# Altium footprint library ExtraComponents.PcbLib: 16 footprints
Each footprint in its own frame and in the unit in brackets; x right, y up, seen from the top. Pads: shape width x height; smd on the part's side, far side on the other; paste and mask are expansions set on the pad; w line width, h text height; cw(c..) or ccw(c..) is an arc to the next point about the centre after c.
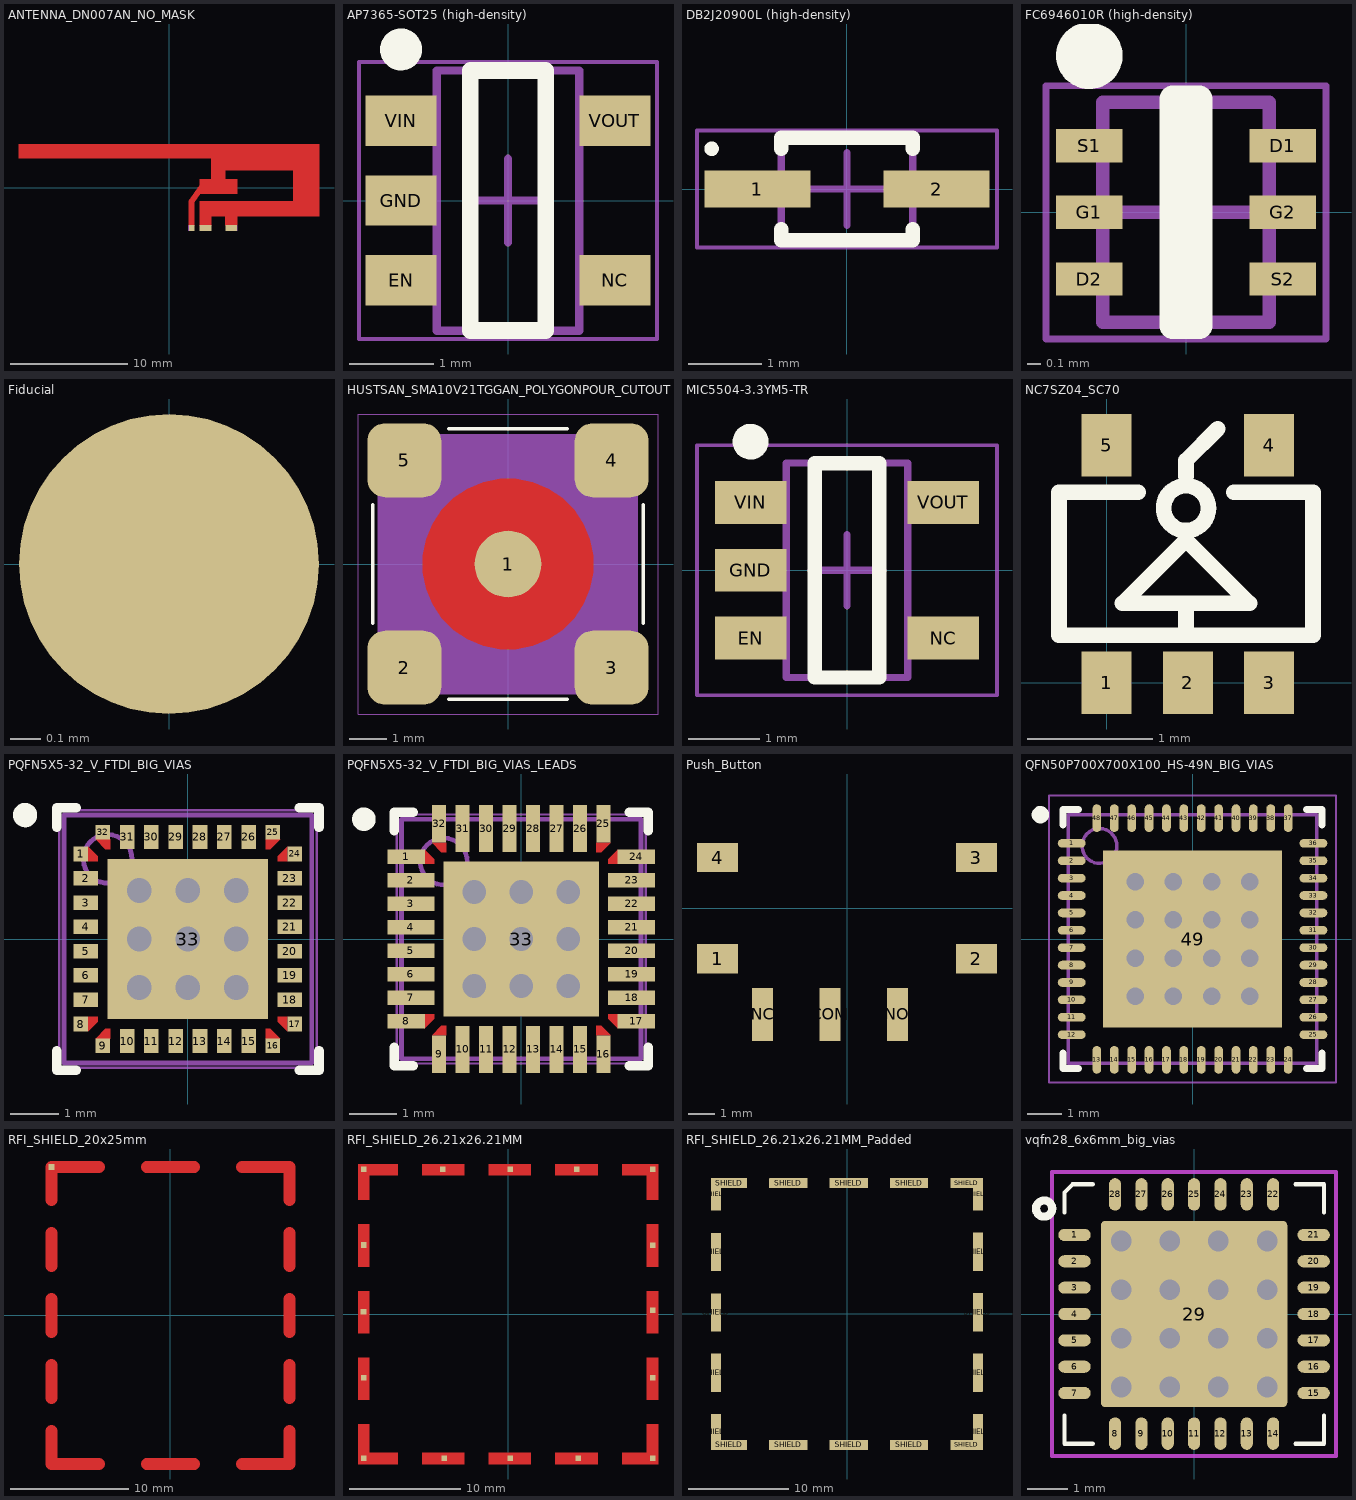
[diagram p0: the footprints below, top view; thin cyan lines are the x and y axes]

## ANTENNA_DN007AN_NO_MASK [mm] "ANTENNA_DN007AN"
pads (3):
  rect 0.46x0.5 smd paste-0.5 mask-0.5: 1(1.93,-3.455)
  rect 1x0.5 smd paste-100 mask-1: 2(3.11,-3.455)
  rect 1x0.5 smd paste-100 mask-100: 3(5.31,-3.455)
Top Layer:
  region: 12.79,-2.465 12.79,3.705 -12.79,3.705 -12.79,2.495 3.61,2.495 3.61,0.695 2.61,0.695 2.61,0.193 1.7,-1.127 1.7,-3.205 2.16,-3.205 2.16,-1.27 2.681,-0.515 5.81,-0.515 5.81,0.695 4.81,0.695 4.81,1.495 10.61,1.495 10.61,-1.175 2.61,-1.175 2.61,-3.205 3.61,-3.205 3.61,-2.465 4.81,-2.465 4.81,-3.205 5.81,-3.205 5.81,-2.465
Mechanical 11:
  text "2" at 3.03,-3.455 h0.2
  text "3" at 5.23,-3.455 h0.2
  text "1" at 1.85,-3.455 h0.2
Mechanical 16:
  lines w0.025: 1.7,-3.705 1.7,-3.205 ; 5.81,-3.705 5.81,-3.205
Mechanical 17:
  text "MICHAL BLACHUCKI" at -8.715,-1.948 h0.2
Mechanical 18:
  text "ROBERT MITAL" at -8.715,-1.548 h0.2
Mechanical 19:
  text "2011-09-19" at -8.715,-2.298 h0.2

## AP7365-SOT25 (high-density) [mm] "AP7365-SOT25 LDO (high-density)"
height 1.4
pads (5):
  rect 0.85x0.6 smd: EN(-1.275,-0.95) GND(-1.275,0) NC(1.275,-0.95) VIN(-1.275,0.95) VOUT(1.275,0.95)
Top Overlay:
  circle w0.25: c-1.275,1.8 r0.125
  lines w0.2: -0.45,-1.55 0.45,-1.55 0.45,1.55 -0.45,1.55 -0.45,-1.55
Mechanical 13:
  lines w0.1: -0.85,-1.55 -0.85,1.55 0.85,1.55 0.85,-1.55 -0.85,-1.55
Mechanical 15:
  lines w0.05: -1.775,-1.65 -1.775,1.65 1.775,1.65 1.775,-1.65 -1.775,-1.65
  lines w0.1: -0.5,0 0.5,0 ; 0,-0.5 0,0.5
3D body: height 1.4, standoff 0.01, extent -0.85,-1.55 0.85,1.55

## DB2J20900L (high-density) [mm] "Panasonic Schottkz Barrier Diode DB2J20900L"
height 0.7
pads (2):
  rect 1.45x0.5 smd: 1(-1.225,0) 2(1.225,0)
Top Overlay:
  circle w0.1: c-1.85,0.55 r0.05
  lines w0.2: -0.9,-0.55 -0.9,-0.7 0.9,-0.7 0.9,-0.55 ; -0.9,0.55 -0.9,0.7 0.9,0.7 0.9,0.55
Mechanical 13:
  lines w0.1: -0.9,-0.675 0.9,-0.675 0.9,0.675 -0.9,0.675 -0.9,-0.675
Mechanical 15:
  lines w0.05: -2.05,-0.8 2.05,-0.8 2.05,0.8 -2.05,0.8 -2.05,-0.8
  lines w0.1: -0.5,0 0.5,0 ; 0,-0.5 0,0.5
3D body: height 0.7, standoff 0, extent -0.9,-0.675 0.9,0.675

## FC6946010R (high-density) [mm] "Panasonic Dual N-Channel Mosfet FC6946010R"
height 0.65
pads (6):
  rect 0.5x0.25 smd: D1(0.725,0.5) D2(-0.725,-0.5) G1(-0.725,0) G2(0.725,0) S1(-0.725,0.5) S2(0.725,-0.5)
Top Overlay:
  circle w0.25: c-0.725,1.175 r0.125
  lines w0.2: -0.1,-0.85 0.1,-0.85 0.1,0.85 -0.1,0.85 -0.1,-0.85
Mechanical 13:
  lines w0.1: -0.625,-0.825 -0.625,0.825 0.625,0.825 0.625,-0.825 -0.625,-0.825
Mechanical 15:
  lines w0.05: -1.05,-0.95 -1.05,0.95 1.05,0.95 1.05,-0.95 -1.05,-0.95
  lines w0.1: -0.5,0 0.5,0 ; 0,-0.5 0,0.5
3D body: height 0.65, standoff 0, extent -0.625,-0.825 0.625,0.825

## Fiducial [mm] "Fiducial"
pads (1):
  round 1 smd paste-1 mask+0: ""(0,0)

## HUSTSAN_SMA10V21TGGAN_POLYGONPOUR_CUTOUT [mm] "HUSTSAN_SMA10V21TGGAN With A GND Plane Cutout"
pads (5):
  round 1.801 smd: 1(0,0)
  rrect48% 2x2 smd: 2(-2.8,-2.8) 3(2.8,-2.8) 4(2.8,2.8) 5(-2.8,2.8)
Top Layer:
  pour cut-out: 0,-2.3 -0.227,-2.3 -0.671,-2.212 -1.089,-2.038 -1.466,-1.787 -1.787,-1.466 -2.038,-1.089 -2.212,-0.671 -2.3,-0.227 -2.3,0 -2.3,0.227 -2.212,0.671 -2.038,1.089 -1.787,1.466 -1.466,1.787 -1.089,2.038 -0.671,2.212 -0.227,2.3 0,2.3 0.227,2.3 0.671,2.212 1.089,2.038 1.466,1.787 1.787,1.466 2.038,1.089 2.212,0.671 2.3,0.227 2.3,0 2.3,-0.227 2.212,-0.671 2.038,-1.089 1.787,-1.466 1.466,-1.787 1.089,-2.038 0.671,-2.212 0.227,-2.3
Top Overlay:
  lines w0.1: -3.65,-1.6 -3.65,1.6 ; -1.6,-3.65 1.6,-3.65 ; -1.6,3.65 1.6,3.65 ; 3.65,-1.6 3.65,1.6
  text ".Designator" at 2.45,-5 h1
Mechanical 11:
  text "4" at 2.72,2.8 h0.2
  text "5" at -2.88,2.8 h0.2
  text "3" at 2.72,-2.8 h0.2
  text "2" at -2.88,-2.8 h0.2
  text "1" at -0.08,0 h0.2
Mechanical 13:
  circle w0.025: c0,0 r2.3
  circle w0.025: c0,0 r2.4
  circle w0.025: c0,0 r2.744
  lines w0.025: -3.5,-3.5 3.5,-3.5 3.5,3.5 -3.5,3.5 -3.5,-3.5
Mechanical 14:
  circle w0.025: c0,0 r0.978
  lines w0.025: -4.05,-4.05 4.05,-4.05 4.05,4.05 -4.05,4.05 -4.05,-4.05
Mechanical 15:
  region: -3.5,3.5 -3.5,-3.5 3.5,-3.5 3.5,3.5
  pour cut-out: 2.752,0 2.719,0.431 2.618,0.851 2.452,1.25 2.227,1.618 1.946,1.946 1.618,2.227 1.25,2.452 0.851,2.618 0.431,2.719 0,2.752 -0.431,2.719 -0.851,2.618 -1.25,2.452 -1.618,2.227 -1.946,1.946 -2.227,1.618 -2.452,1.25 -2.618,0.851 -2.719,0.431 -2.752,0 -2.719,-0.431 -2.618,-0.851 -2.452,-1.25 -2.227,-1.618 -1.946,-1.946 -1.618,-2.227 -1.25,-2.452 -0.851,-2.618 -0.431,-2.719 0,-2.752 0.431,-2.719 0.851,-2.618 1.25,-2.452 1.618,-2.227 1.946,-1.946 2.227,-1.618 2.452,-1.25 2.618,-0.851 2.719,-0.431
Mechanical 16:
  text "COPYRIGHTS 2011 @ DYNAMIC PRECISION" at -3,4.15 h0.2
Mechanical 17:
  text "MICHAL BLACHUCKI" at -0.635,-0.146 h0.2
Mechanical 18:
  text "ROBERT MITAL" at -0.635,0.254 h0.2
Mechanical 19:
  text "2011-07-18" at -0.635,-0.496 h0.2

## MIC5504-3.3YM5-TR [mm] "SOT23, 5-Leads, Body 2.90x2.80mm, Pitch 0.95mm, IPC Medium Density"
height 1.45
pads (5):
  rect 1x0.6 smd: EN(-1.35,-0.95) GND(-1.35,0) NC(1.35,-0.95) VIN(-1.35,0.95) VOUT(1.35,0.95)
Top Overlay:
  circle w0.25: c-1.35,1.8 r0.125
  lines w0.2: -0.45,-1.5 -0.45,1.5 0.45,1.5 0.45,-1.5 -0.45,-1.5
Mechanical 13:
  lines w0.1: -0.85,-1.5 0.85,-1.5 0.85,1.5 -0.85,1.5 -0.85,-1.5
Mechanical 15:
  lines w0.05: -2.1,-1.75 2.1,-1.75 2.1,1.75 -2.1,1.75 -2.1,-1.75
  lines w0.1: -0.5,0 0.5,0 ; 0,-0.5 0,0.5
3D body: height 1.45, standoff 0, extent -0.85,-1.5 0.85,1.5

## NC7SZ04_SC70 [mm] "NC7SZ04 TinyLogic UHS Inverter SC70 Package"
height 1.1
pads (5):
  rect 0.4x0.5 smd: 1(0,0) 2(0.65,0) 3(1.3,0) 4(1.3,1.9) 5(0,1.9)
Top Overlay:
  circle w0.125: c0.635,1.397 r0.18
  lines w0.125: 0.254,1.524 -0.381,1.524 -0.381,0.381 1.651,0.381 1.651,1.524 1.016,1.524 ; 0.635,0.381 0.635,0.635 ; 0.635,1.651 0.635,1.778 0.889,2.032 ; 0.635,0.635 1.143,0.635 0.635,1.143 0.127,0.635 0.635,0.635

## PQFN5X5-32_V_FTDI_BIG_VIAS [mm] "QFN, 32-Leads, Body 5x5mm, Pitch 0.5mm, Thermal Pad 3.3x3.3mm, FTDI Recommended"
height 1
pads (33):
  rect 0.3x0.3 smd paste-0.15 mask-0.15: 1(-2.2,1.75) 8(-2.2,-1.75) 9(-1.75,-2.2) 16(1.75,-2.2) 17(2.2,-1.75) 24(2.2,1.75) 25(1.75,2.2) 32(-1.75,2.2)
  rect 0.5x0.3 smd paste-0.15 mask+0.06: 2(-2.1,1.25) 3(-2.1,0.75) 4(-2.1,0.25) 5(-2.1,-0.25) 6(-2.1,-0.75) 7(-2.1,-1.25) 18(2.1,-1.25) 19(2.1,-0.75) 20(2.1,-0.25) 21(2.1,0.25) 22(2.1,0.75) 23(2.1,1.25)
  rect 0.3x0.5 smd paste-0.15 mask+0.06: 10(-1.25,-2.1) 11(-0.75,-2.1) 12(-0.25,-2.1) 13(0.25,-2.1) 14(0.75,-2.1) 15(1.25,-2.1) 26(1.25,2.1) 27(0.75,2.1) 28(0.25,2.1) 29(-0.25,2.1) 30(-0.75,2.1) 31(-1.25,2.1)
  rect 3.3x3.3 smd paste-1.65 mask+0.06: 33(0,0)
via -1,0 diameter 0.889 hole 0.508
via 1,-1 diameter 0.889 hole 0.508
via 0,-1 diameter 0.889 hole 0.508
via -1,-1 diameter 0.889 hole 0.508
via 1,0 diameter 0.889 hole 0.508
via 0,0 diameter 0.889 hole 0.508
via 1,1 diameter 0.889 hole 0.508
via 0,1 diameter 0.889 hole 0.508
via -1,1 diameter 0.889 hole 0.508
Top Layer:
  region: -2.05,-1.6 -1.85,-1.6 -1.85,-1.7 -2.05,-1.9
  region: 2.05,-1.6 1.85,-1.6 1.85,-1.7 2.05,-1.9
  region: 2.05,1.6 1.85,1.6 1.85,1.7 2.05,1.9
  region: -2.05,1.6 -1.85,1.6 -1.85,1.7 -2.05,1.9
  region: -1.6,-2.05 -1.6,-1.85 -1.7,-1.85 -1.9,-2.05
  region: 1.6,2.05 1.6,1.85 1.7,1.85 1.9,2.05
  region: -1.6,2.05 -1.6,1.85 -1.7,1.85 -1.9,2.05
  region: 1.6,-1.85 1.6,-2.05 1.9,-2.05 1.7,-1.85
Top Overlay:
  circle w0.25: c-3.35,2.55 r0.125
  lines w0.2: -2.7,-2.3 -2.7,-2.7 -2.3,-2.7 ; -2.7,2.3 -2.7,2.7 -2.3,2.7 ; 2.3,-2.7 2.7,-2.7 2.7,-2.3 ; 2.3,2.7 2.7,2.7 2.7,2.3
Top Paste:
  rectangle: 1.85,1.1 2.45,1.4
  rectangle: 1.85,0.6 2.45,0.9
  rectangle: 1.85,0.1 2.45,0.4
  rectangle: 1.85,-0.4 2.45,-0.1
  rectangle: 1.85,-0.9 2.45,-0.6
  rectangle: 1.85,-1.4 2.45,-1.1
  region: -1.85,-1.1 -2.45,-1.1 -2.45,-1.4 -1.85,-1.4
  region: -1.85,-0.6 -2.45,-0.6 -2.45,-0.9 -1.85,-0.9
  region: -1.85,-0.1 -2.45,-0.1 -2.45,-0.4 -1.85,-0.4
  region: -1.85,0.4 -2.45,0.4 -2.45,0.1 -1.85,0.1
  region: -1.85,0.9 -2.45,0.9 -2.45,0.6 -1.85,0.6
  region: -1.85,1.4 -2.45,1.4 -2.45,1.1 -1.85,1.1
  region: 1.1,-1.85 1.1,-2.45 1.4,-2.45 1.4,-1.85
  region: 0.6,-1.85 0.6,-2.45 0.9,-2.45 0.9,-1.85
  region: 0.1,-1.85 0.1,-2.45 0.4,-2.45 0.4,-1.85
  region: -0.4,-1.85 -0.4,-2.45 -0.1,-2.45 -0.1,-1.85
  region: -0.9,-1.85 -0.9,-2.45 -0.6,-2.45 -0.6,-1.85
  region: -1.4,-1.85 -1.4,-2.45 -1.1,-2.45 -1.1,-1.85
  region: 1.4,1.85 1.4,2.45 1.1,2.45 1.1,1.85
  region: 0.9,1.85 0.9,2.45 0.6,2.45 0.6,1.85
  region: 0.4,1.85 0.4,2.45 0.1,2.45 0.1,1.85
  region: -0.1,1.85 -0.1,2.45 -0.4,2.45 -0.4,1.85
  region: -0.6,1.85 -0.6,2.45 -0.9,2.45 -0.9,1.85
  region: -1.1,1.85 -1.1,2.45 -1.4,2.45 -1.4,1.85
  rectangle: -0.3,0.1 0.3,0.4
  rectangle: -1.3,0.1 -0.7,0.4
  rectangle: 0.7,0.1 1.3,0.4
  rectangle: -0.3,-0.4 0.3,-0.1
  rectangle: 0.7,-0.4 1.3,-0.1
  rectangle: -1.3,-0.4 -0.7,-0.1
  rectangle: -1.3,-1.4 -0.7,-1.1
  rectangle: 0.7,-1.4 1.3,-1.1
  rectangle: -0.3,-1.4 0.3,-1.1
  rectangle: 0.7,-0.9 1.3,-0.6
  rectangle: -1.3,-0.9 -0.7,-0.6
  rectangle: -0.3,-0.9 0.3,-0.6
  rectangle: -1.3,0.6 -0.7,0.9
  rectangle: 0.7,0.6 1.3,0.9
  rectangle: -0.3,0.6 0.3,0.9
  rectangle: 0.7,1.1 1.3,1.4
  rectangle: -1.3,1.1 -0.7,1.4
  rectangle: -0.3,1.1 0.3,1.4
  region: 1.6,-1.85 1.6,-2.45 1.9,-2.45 1.9,-2.05 1.7,-1.85
  region: 1.85,1.6 2.45,1.601 2.45,1.899 2.05,1.9 1.85,1.7
  region: 1.85,-1.6 2.45,-1.6 2.45,-1.9 2.05,-1.9 1.85,-1.7
  region: 1.6,1.85 1.6,2.45 1.9,2.45 1.9,2.05 1.7,1.85
  region: -1.85,1.6 -2.45,1.6 -2.45,1.9 -2.05,1.9 -1.85,1.7
  region: -1.85,-1.6 -2.45,-1.6 -2.45,-1.9 -2.05,-1.9 -1.85,-1.7
  region: -1.6,-1.85 -1.6,-2.45 -1.9,-2.45 -1.9,-2.05 -1.7,-1.85
  region: -1.6,1.85 -1.6,2.45 -1.9,2.45 -1.9,2.05 -1.7,1.85
Top Solder:
  region: 1.96,-2.025 1.96,-2.41 1.54,-2.41 1.54,-1.79 1.725,-1.79
  region: 2.025,1.96 2.41,1.96 2.41,1.54 1.79,1.54 1.79,1.725
  region: 2.025,-1.96 2.41,-1.96 2.41,-1.54 1.79,-1.54 1.79,-1.725
  region: 1.96,2.025 1.96,2.41 1.54,2.41 1.54,1.79 1.725,1.79
  region: -2.025,1.96 -2.41,1.96 -2.41,1.54 -1.79,1.54 -1.79,1.725
  region: -2.025,-1.96 -2.41,-1.96 -2.41,-1.54 -1.79,-1.54 -1.79,-1.725
  region: -1.96,-2.025 -1.96,-2.41 -1.54,-2.41 -1.54,-1.79 -1.725,-1.79
  region: -1.96,2.025 -1.96,2.41 -1.54,2.41 -1.54,1.79 -1.725,1.79
Mechanical 13:
  circle w0.1: c-1.65,1.65 r0.5
  lines w0.1: -2.55,-2.55 2.55,-2.55 2.55,2.55 -2.55,2.55 -2.55,-2.55
Mechanical 15:
  lines w0.05: -2.65,-2.65 2.65,-2.65 2.65,2.65 -2.65,2.65 -2.65,-2.65
  lines w0.1: -0.5,0 0.5,0 ; 0,-0.5 0,0.5
3D body: height 1, standoff 0, extent -2.55,-2.55 2.55,2.55

## PQFN5X5-32_V_FTDI_BIG_VIAS_LEADS [mm] "QFN, 32-Leads, Body 5x5mm, Pitch 0.5mm, Thermal Pad 3.3x3.3mm, FTDI Recommended"
height 1
pads (33):
  rect 0.8x0.3 smd paste-0.15 mask-0.15: 1(-2.45,1.75) 8(-2.45,-1.75) 17(2.45,-1.75) 24(2.45,1.75)
  rect 1x0.3 smd mask+0.06: 2(-2.35,1.25) 3(-2.35,0.75) 4(-2.35,0.25) 5(-2.35,-0.25) 6(-2.35,-0.75) 7(-2.35,-1.25) 18(2.35,-1.25) 19(2.35,-0.75) 20(2.35,-0.25) 21(2.35,0.25) 22(2.35,0.75) 23(2.35,1.25)
  rect 0.3x0.8 smd paste-0.15 mask-0.15: 9(-1.75,-2.45) 16(1.75,-2.45) 25(1.75,2.45) 32(-1.75,2.45)
  rect 0.3x1 smd mask+0.06: 10(-1.25,-2.35) 11(-0.75,-2.35) 12(-0.25,-2.35) 13(0.25,-2.35) 14(0.75,-2.35) 15(1.25,-2.35) 26(1.25,2.35) 27(0.75,2.35) 28(0.25,2.35) 29(-0.25,2.35) 30(-0.75,2.35) 31(-1.25,2.35)
  rect 3.3x3.3 smd paste-1.125 mask+0.06: 33(0,0)
via -1,0 diameter 0.889 hole 0.508
via 1,-1 diameter 0.889 hole 0.508
via 0,-1 diameter 0.889 hole 0.508
via -1,-1 diameter 0.889 hole 0.508
via 1,0 diameter 0.889 hole 0.508
via 0,0 diameter 0.889 hole 0.508
via 1,1 diameter 0.889 hole 0.508
via 0,1 diameter 0.889 hole 0.508
via -1,1 diameter 0.889 hole 0.508
Top Layer:
  region: -2.05,-1.6 -1.85,-1.6 -1.85,-1.7 -2.05,-1.9
  region: 2.05,-1.6 1.85,-1.6 1.85,-1.7 2.05,-1.9
  region: 2.05,1.6 1.85,1.6 1.85,1.7 2.05,1.9
  region: -2.05,1.6 -1.85,1.6 -1.85,1.7 -2.05,1.9
  region: -1.6,-2.05 -1.6,-1.85 -1.7,-1.85 -1.9,-2.05
  region: 1.6,2.05 1.6,1.85 1.7,1.85 1.9,2.05
  region: -1.6,2.05 -1.6,1.85 -1.7,1.85 -1.9,2.05
  region: 1.6,-1.85 1.6,-2.05 1.9,-2.05 1.7,-1.85
Top Overlay:
  circle w0.25: c-3.35,2.55 r0.125
  lines w0.2: -2.7,-2.3 -2.7,-2.7 -2.3,-2.7 ; -2.7,2.3 -2.7,2.7 -2.3,2.7 ; 2.3,-2.7 2.7,-2.7 2.7,-2.3 ; 2.3,2.7 2.7,2.7 2.7,2.3
Top Paste:
  rectangle: -0.3,0.3 0.3,0.6
  rectangle: -1.3,0.3 -0.7,0.6
  rectangle: 0.7,0.3 1.3,0.6
  rectangle: -0.3,-0.6 0.3,-0.3
  rectangle: 0.7,-0.6 1.3,-0.3
  rectangle: -1.3,-0.6 -0.7,-0.3
  rectangle: -1.3,-1.525 -0.7,-1.1
  rectangle: 0.7,-1.525 1.3,-1.1
  rectangle: -0.3,-1.525 0.3,-1.1
  rectangle: 0.7,-0.9 1.3,-0.6
  rectangle: -1.3,-0.9 -0.7,-0.6
  rectangle: -0.3,-0.9 0.3,-0.6
  rectangle: -1.3,0.6 -0.7,0.9
  rectangle: 0.7,0.6 1.3,0.9
  rectangle: -0.3,0.6 0.3,0.9
  rectangle: 0.7,1.1 1.3,1.525
  rectangle: -1.3,1.1 -0.7,1.525
  rectangle: -0.3,1.1 0.3,1.525
  region: 1.6,-1.85 1.6,-2.85 1.9,-2.85 1.9,-2.05 1.7,-1.85
  region: 1.85,1.6 2.85,1.602 2.85,1.898 2.05,1.9 1.85,1.7
  region: 1.85,-1.6 2.85,-1.6 2.85,-1.9 2.05,-1.9 1.85,-1.7
  region: 1.6,1.85 1.6,2.85 1.9,2.85 1.9,2.05 1.7,1.85
  region: -1.85,1.6 -2.85,1.6 -2.85,1.9 -2.05,1.9 -1.85,1.7
  region: -1.85,-1.6 -2.85,-1.6 -2.85,-1.9 -2.05,-1.9 -1.85,-1.7
  region: -1.6,-1.85 -1.6,-2.85 -1.9,-2.85 -1.9,-2.05 -1.7,-1.85
  region: -1.6,1.85 -1.6,2.85 -1.9,2.85 -1.9,2.05 -1.7,1.85
Top Solder:
  region: 1.96,-2.025 1.96,-2.91 1.54,-2.91 1.54,-1.79 1.725,-1.79
  region: 2.025,1.96 2.91,1.96 2.91,1.54 1.79,1.54 1.79,1.725
  region: 2.025,-1.96 2.91,-1.96 2.91,-1.54 1.79,-1.54 1.79,-1.725
  region: 1.96,2.025 1.96,2.91 1.54,2.91 1.54,1.79 1.725,1.79
  region: -2.025,1.96 -2.91,1.96 -2.91,1.54 -1.79,1.54 -1.79,1.725
  region: -2.025,-1.96 -2.91,-1.96 -2.91,-1.54 -1.79,-1.54 -1.79,-1.725
  region: -1.96,-2.025 -1.96,-2.91 -1.54,-2.91 -1.54,-1.79 -1.725,-1.79
  region: -1.96,2.025 -1.96,2.91 -1.54,2.91 -1.54,1.79 -1.725,1.79
Mechanical 13:
  circle w0.1: c-1.65,1.65 r0.5
  lines w0.1: -2.55,-2.55 2.55,-2.55 2.55,2.55 -2.55,2.55 -2.55,-2.55
Mechanical 15:
  lines w0.05: -2.65,-2.65 2.65,-2.65 2.65,2.65 -2.65,2.65 -2.65,-2.65
  lines w0.1: -0.5,0 0.5,0 ; 0,-0.5 0,0.5
3D body: height 1, standoff 0, extent -2.55,-2.55 2.55,2.55

## Push_Button [mm] "CFPA-1FB4"
pads (7):
  rect 1.55x1.1 smd: 1(-4.875,-1.905) 2(4.875,-1.905) 3(4.875,1.905) 4(-4.875,1.905)
  rect 0.8x2 smd: COM(-0.64,-4) NC(-3.18,-4) NO(1.9,-4)
3D body "G3B15AH-XC.stp": height 5.52, standoff -0.04, extent -5.537,-4.445 5.461,8.915

## QFN50P700X700X100_HS-49N_BIG_VIAS [mm] "QFN, 48-Leads, Body 7.00x7.00mm, Pitch 0.50mm, Thermal Pad 5.15x5.10mm, IPC Medium Density"
height 1
pads (49):
  oval 0.8x0.25 smd: 1(-3.475,2.75) 2(-3.475,2.25) 3(-3.475,1.75) 4(-3.475,1.25) 5(-3.475,0.75) 6(-3.475,0.25) 7(-3.475,-0.25) 8(-3.475,-0.75) 9(-3.475,-1.25) 10(-3.475,-1.75) 11(-3.475,-2.25) 12(-3.475,-2.75) 25(3.475,-2.75) 26(3.475,-2.25) 27(3.475,-1.75) 28(3.475,-1.25) 29(3.475,-0.75) 30(3.475,-0.25) 31(3.475,0.25) 32(3.475,0.75) 33(3.475,1.25) 34(3.475,1.75) 35(3.475,2.25) 36(3.475,2.75)
  oval 0.25x0.8 smd: 13(-2.75,-3.475) 14(-2.25,-3.475) 15(-1.75,-3.475) 16(-1.25,-3.475) 17(-0.75,-3.475) 18(-0.25,-3.475) 19(0.25,-3.475) 20(0.75,-3.475) 21(1.25,-3.475) 22(1.75,-3.475) 23(2.25,-3.475) 24(2.75,-3.475) 37(2.75,3.475) 38(2.25,3.475) 39(1.75,3.475) 40(1.25,3.475) 41(0.75,3.475) 42(0.25,3.475) 43(-0.25,3.475) 44(-0.75,3.475) 45(-1.25,3.475) 46(-1.75,3.475) 47(-2.25,3.475) 48(-2.75,3.475)
  rect 5.15x5.1 smd paste-5.15: 49(0,0)
via -1.65,1.65 diameter 0.889 hole 0.508
via -0.55,1.65 diameter 0.889 hole 0.508
via 0.55,1.65 diameter 0.889 hole 0.508
via 1.65,1.65 diameter 0.889 hole 0.508
via 1.65,0.55 diameter 0.889 hole 0.508
via 0.55,0.55 diameter 0.889 hole 0.508
via -0.55,0.55 diameter 0.889 hole 0.508
via -1.65,0.55 diameter 0.889 hole 0.508
via -1.65,-0.55 diameter 0.889 hole 0.508
via -0.55,-0.55 diameter 0.889 hole 0.508
via 0.55,-0.55 diameter 0.889 hole 0.508
via 1.65,-0.55 diameter 0.889 hole 0.508
via 1.65,-1.65 diameter 0.889 hole 0.508
via 0.55,-1.65 diameter 0.889 hole 0.508
via -0.55,-1.65 diameter 0.889 hole 0.508
via -1.65,-1.65 diameter 0.889 hole 0.508
Top Overlay:
  circle w0.25: c-4.375,3.575 r0.125
  lines w0.2: -3.725,-3.275 -3.725,-3.725 -3.275,-3.725 ; -3.725,3.275 -3.725,3.725 -3.275,3.725 ; 3.275,-3.725 3.725,-3.725 3.725,-3.275 ; 3.275,3.725 3.725,3.725 3.725,3.275
Top Paste:
  rectangle: -0.725,-0.725 0.725,0.725
  rectangle: -2.475,-0.725 -1.025,0.725
  rectangle: 1.025,-0.725 2.475,0.725
  rectangle: 1.025,1 2.475,2.45
  rectangle: -2.475,1 -1.025,2.45
  rectangle: -0.725,1 0.725,2.45
  rectangle: 1.025,-2.45 2.475,-1
  rectangle: -2.475,-2.45 -1.025,-1
  rectangle: -0.725,-2.45 0.725,-1
Mechanical 13:
  circle w0.1: c-2.675,2.675 r0.5
  lines w0.1: -3.575,-3.575 3.575,-3.575 3.575,3.575 -3.575,3.575 -3.575,-3.575
Mechanical 15:
  lines w0.05: -4.125,-4.125 4.125,-4.125 4.125,4.125 -4.125,4.125 -4.125,-4.125
  lines w0.1: 0,-0.5 0,0.5
3D body "QFN50P700X700X100_HS-49N.step": height 1, standoff 0, extent -3.576,-3.576 3.576,3.576

## RFI_SHIELD_20x25mm [mm] "RFI Shield 20x25mm"
height 3
pads (1):
  rect 0.5x0.5 smd: Shield(-10.1,12.6)
Top Layer:
  lines w1: -10.1,-9.8 -10.1,-12.6 -6.06,-12.6 ; -10.1,-7 -10.1,-4.2 ; -10.1,-1.4 -10.1,1.4 ; -10.1,4.2 -10.1,7 ; -10.1,9.8 -10.1,12.6 -6.06,12.6 ; -2.02,-12.6 2.02,-12.6 ; -2.02,12.6 2.02,12.6 ; 6.06,-12.6 10.1,-12.6 10.1,-9.8 ; 6.06,12.6 10.1,12.6 10.1,9.8 ; 10.1,-7 10.1,-4.2 ; 10.1,-1.4 10.1,1.4 ; 10.1,4.2 10.1,7

## RFI_SHIELD_26.21x26.21MM [mm]
pads (16):
  rect 0.5x0.5 smd: SHIELD(-13.008,0.221) SHIELD(-12.997,-12.997) SHIELD(-12.997,-5.758) SHIELD(-12.997,13.038) SHIELD(-12.99,6.213) SHIELD(-5.885,13.038) SHIELD(-5.758,-12.997) SHIELD(0.211,-12.997) SHIELD(0.211,13.038) SHIELD(6.18,13.038) SHIELD(6.307,-12.997) SHIELD(13.038,-12.997) SHIELD(13.038,-5.758) SHIELD(13.038,0.338) SHIELD(13.038,6.18) SHIELD(13.038,13.038)
Top Layer:
  region: 13.505,4.265 12.505,4.265 12.505,8.065 13.505,8.065
  region: 13.505,-1.735 12.505,-1.735 12.505,2.065 13.505,2.065
  region: 13.505,-7.735 12.505,-7.735 12.505,-3.935 13.505,-3.935
  region: 13.505,-13.505 13.505,-9.935 12.505,-9.935 12.505,-12.505 10.265,-12.505 10.265,-13.505
  region: -13.505,-13.505 -9.935,-13.505 -9.935,-12.505 -12.505,-12.505 -12.505,-9.935 -13.505,-9.935
  region: -12.505,-7.735 -13.505,-7.735 -13.505,-3.935 -12.505,-3.935
  region: -12.505,-1.735 -13.505,-1.735 -13.505,2.065 -12.505,2.065
  region: -12.505,4.265 -13.505,4.265 -13.505,8.065 -12.505,8.065
  region: -13.505,13.505 -13.505,10.265 -12.505,10.265 -12.505,12.505 -9.935,12.505 -9.935,13.505
  region: 8.065,13.505 8.065,12.505 4.265,12.505 4.265,13.505
  region: 2.065,13.505 2.065,12.505 -1.735,12.505 -1.735,13.505
  region: -3.935,13.505 -3.935,12.505 -7.735,12.505 -7.735,13.505
  region: 13.505,13.505 10.265,13.505 10.265,12.505 12.505,12.505 12.505,10.265 13.505,10.265
  region: -3.935,-12.505 -3.935,-13.505 -7.735,-13.505 -7.735,-12.505
  region: 2.065,-12.505 2.065,-13.505 -1.735,-13.505 -1.735,-12.505
  region: 8.065,-12.505 8.065,-13.505 4.265,-13.505 4.265,-12.505

## RFI_SHIELD_26.21x26.21MM_Padded [mm]
pads (20):
  rrect5% 1x3.8 smd: SHIELD(-13.01,6.171) SHIELD(-13.007,-5.845) SHIELD(-13.005,0.157) SHIELD(12.998,6.184) SHIELD(13.001,-5.831) SHIELD(13.003,0.17)
  rrect5% 1x3.24 smd: SHIELD(-13.008,11.885) SHIELD(13.004,11.885)
  rrect5% 1x3.57 smd: SHIELD(-13.003,-11.721) SHIELD(13.007,-11.719)
  rrect5% 3.57x1 smd: SHIELD(-11.717,13.008) SHIELD(-11.709,-13.01)
  rrect5% 3.8x1 smd: SHIELD(-5.836,-13.009) SHIELD(-5.834,13.001) SHIELD(0.166,-13.004) SHIELD(0.168,13.007) SHIELD(6.164,-13.004) SHIELD(6.166,13.007)
  rrect5% 3.24x1 smd: SHIELD(11.883,13.005) SHIELD(11.884,-13.007)

## vqfn28_6x6mm_big_vias [mm] "28 Leads, Body 6.0x6.0mm, Pitch 0.65mm, VQFN28"
height 1
pads (29):
  oval 0.8x0.3 smd mask+0.05: 1(-2.95,1.95) 2(-2.95,1.3) 3(-2.95,0.65) 4(-2.95,0) 5(-2.95,-0.65) 6(-2.95,-1.3) 7(-2.95,-1.95) 15(2.95,-1.95) 16(2.95,-1.3) 17(2.95,-0.65) 18(2.95,0) 19(2.95,0.65) 20(2.95,1.3) 21(2.95,1.95)
  oval 0.3x0.8 smd mask+0.05: 8(-1.95,-2.95) 9(-1.3,-2.95) 10(-0.65,-2.95) 11(0,-2.95) 12(0.65,-2.95) 13(1.3,-2.95) 14(1.95,-2.95) 22(1.95,2.95) 23(1.3,2.95) 24(0.65,2.95) 25(0,2.95) 26(-0.65,2.95) 27(-1.3,2.95) 28(-1.95,2.95)
  rrect5% 4.6x4.6 smd paste-3.3 mask+0.05: 29(0,0)
via 0.6,-1.8 diameter 0.889 hole 0.508
via 1.8,-0.6 diameter 0.889 hole 0.508
via -1.8,1.8 diameter 0.889 hole 0.508
via -1.8,-0.6 diameter 0.889 hole 0.508
via -1.8,0.6 diameter 0.889 hole 0.508
via 0.6,-0.6 diameter 0.889 hole 0.508
via 1.8,-1.8 diameter 0.889 hole 0.508
via -0.6,-1.8 diameter 0.889 hole 0.508
via -1.8,-1.8 diameter 0.889 hole 0.508
via -0.6,1.8 diameter 0.889 hole 0.508
via -0.6,0.6 diameter 0.889 hole 0.508
via -0.6,-0.6 diameter 0.889 hole 0.508
via 0.6,0.6 diameter 0.889 hole 0.508
via 0.6,1.8 diameter 0.889 hole 0.508
via 1.8,1.8 diameter 0.889 hole 0.508
via 1.8,0.6 diameter 0.889 hole 0.508
Top Overlay:
  circle w0.2: c-3.7,2.6 r0.2
  lines w0.1: -3.2,-2.5 -3.2,-3.2 -2.5,-3.2 ; -3.2,2.5 -3.2,3 -3,3.2 -2.5,3.2 ; 2.5,-3.2 3.2,-3.2 3.2,-2.5 ; 2.5,3.2 3.2,3.2 3.2,2.5
Top Paste:
  region: -1.6,-0.8 -1.6,-1.6 -0.8,-1.6 -0.8,-0.8
  region: 0.8,-0.8 0.8,-1.6 1.6,-1.6 1.6,-0.8
  region: -0.4,-0.8 -0.4,-1.6 0.4,-1.6 0.4,-0.8
  region: 0.8,0.4 0.8,-0.4 1.6,-0.4 1.6,0.4
  region: -1.6,1.6 -1.6,0.8 -0.8,0.8 -0.8,1.6
  region: -0.4,1.6 -0.4,0.8 0.4,0.8 0.4,1.6
  region: -1.6,0.4 -1.6,-0.4 -0.8,-0.4 -0.8,0.4
  region: -0.4,0.4 -0.4,-0.4 0.4,-0.4 0.4,0.4
  region: 0.8,1.6 0.8,0.8 1.6,0.8 1.6,1.6
Mechanical 15 keep-out:
  lines w0.1: -3.5,-3.5 -3.5,3.5 3.5,3.5 3.5,-3.5 -3.5,-3.5
3D body: height 1, standoff 0.05, extent -3,-3 3,3